# Altium footprint library Omron-XG4A-031-conn-plug-10pos-100mil.PcbLib: 1 footprints
Each footprint in its own frame and in the unit in brackets; x right, y up, seen from the top. Pads: shape width x height; smd on the part's side, far side on the other; paste and mask are expansions set on the pad; w line width, h text height; cw(c..) or ccw(c..) is an arc to the next point about the centre after c.
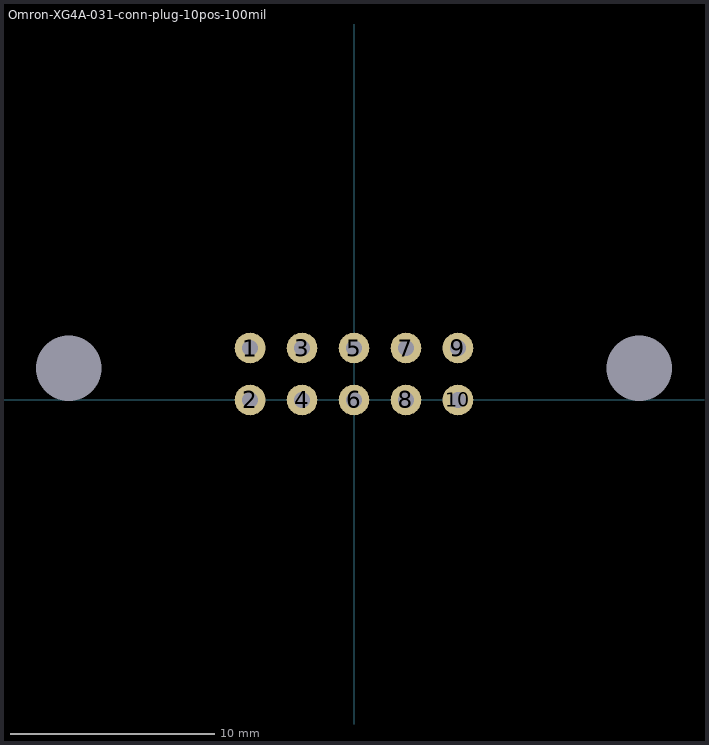
[diagram p0: the footprint, top view; thin cyan lines are the x and y axes]

## Omron-XG4A-031-conn-plug-10pos-100mil [mm] "10 Positions Header, Shrouded Connector 0.100\" Digikey#OR880-ND"
height 27
pads (12):
  round 1.5 hole 0.8: 1(-5.08,2.54) 2(-5.08,0) 3(-2.54,2.54) 4(-2.54,0) 5(0,2.54) 6(0,0) 7(2.54,2.54) 8(2.54,0) 9(5.08,2.54) 10(5.08,0)
  round 0 hole 3.2 unplated: ""(-13.95,1.54) ""(13.95,1.54)
3D body "XG4A_1031.step": height 27, standoff -3.2, extent -16,-3.11 16,5.39